# EAGLE library part MRF49XA (library Microchip)
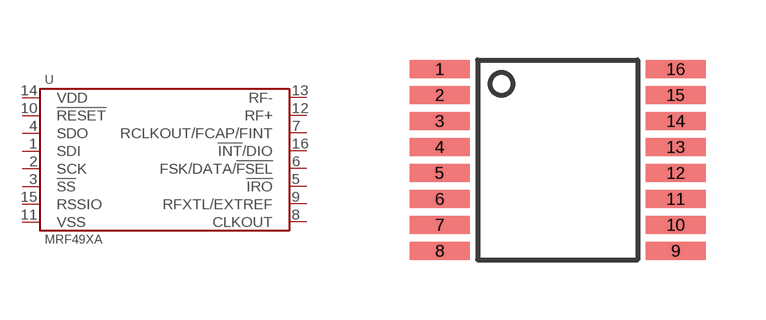
[diagram p6: symbol with the pads of TSSOP-16; footprint TSSOP-16]

Designator prefix U

## MRF49XA  [TSSOP-16]
1  SDI
2  SCK
3  !SS
4  SDO
5  !IRO
6  FSK/DATA/!FSEL
7  RCLKOUT/FCAP/FINT
8  CLKOUT
9  RFXTL/EXTREF
10  !RESET
11  VSS
12  RF+
13  RF-
14  VDD
15  RSSIO
16  !INT!/DIO

## Footprint TSSOP-16 (pad centres in mm)
smd 1.5 x 0.45: 1 -2.95,2.275; 2 -2.95,1.625; 3 -2.95,0.975; 4 -2.95,0.325; 5 -2.95,-0.325; 6 -2.95,-0.975; 7 -2.95,-1.625; 8 -2.95,-2.275; 9 2.95,-2.275; 10 2.95,-1.625; 11 2.95,-0.975; 12 2.95,-0.325; 13 2.95,0.325; 14 2.95,0.975; 15 2.95,1.625; 16 2.95,2.275